# Altium footprint library KEMET.PcbLib: 1 footprints
Each footprint in its own frame and in the unit in brackets; x right, y up, seen from the top. Pads: shape width x height; smd on the part's side, far side on the other; paste and mask are expansions set on the pad; w line width, h text height; cw(c..) or ccw(c..) is an arc to the next point about the centre after c.
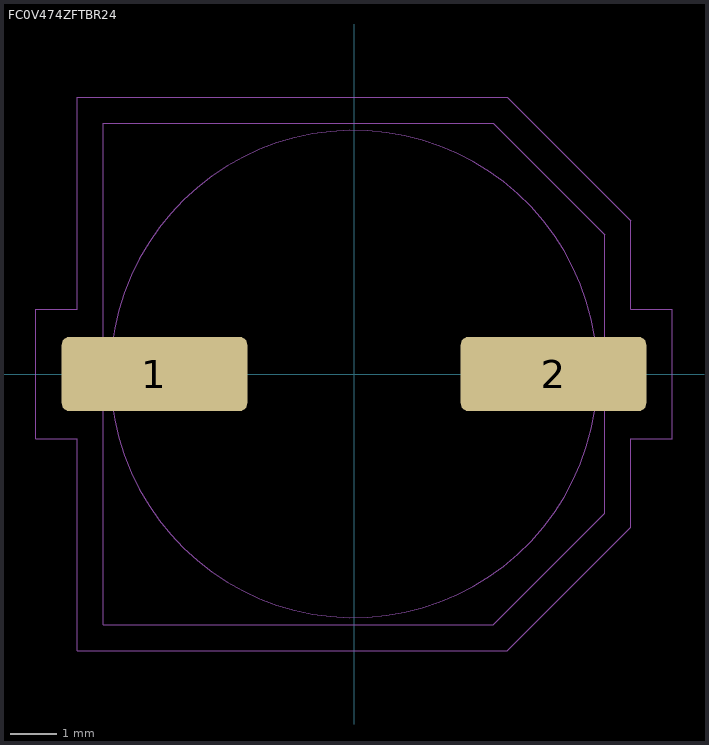
[diagram p0: the footprint, top view; thin cyan lines are the x and y axes]

## FC0V474ZFTBR24 [mm]
pads (2):
  rrect20% 4x1.6 smd paste-2.54 mask+0.076: 1(-4.3,0) 2(4.3,0)
Top Paste:
  rectangle: -6.223,0.127 -2.413,0.762
  rectangle: -6.223,-0.762 -2.413,-0.127
  rectangle: 2.413,0.127 6.223,0.762
  rectangle: 2.413,-0.762 6.223,-0.127
Top Solder:
  rectangle: -1.397,-0.889 -0.762,0.889
  rectangle: 1.143,-0.508 1.397,0.508
  region: 1.778,-0.127 1.778,0.127 0.762,0.127 0.762,-0.127
  lines w0.254: -2.54,-1.524 -2.54,-2.413 1.524,-2.413 2.413,-1.524 ; -2.54,1.524 -2.54,2.413 1.524,2.413 2.413,1.524
Top Designator:
  text ".Designator" at -3.242,-0.317 h0.89
Top Courtyard:
  lines w0.025: -6.858,-1.397 -6.858,1.397 -5.969,1.397 -5.969,5.969 3.302,5.969 5.969,3.302 5.969,1.397 6.858,1.397 6.858,-1.397 5.969,-1.397 5.969,-3.302 3.302,-5.969 -5.969,-5.969 -5.969,-1.397 -6.858,-1.397
Top Component Outline:
  circle w0.025: c0,0 r5.25
  lines w0.025: -6.1,-0.6 -2.5,-0.6 -2.5,0.6 -6.1,0.6 -6.1,-0.6 ; -5.4,-5.4 3,-5.4 5.4,-3 5.4,3 3,5.4 -5.4,5.4 -5.4,-5.4 ; 2.5,-0.6 2.5,0.6 6.1,0.6 6.1,-0.6 2.5,-0.6
3D body: height 8.75, standoff 0.25, extent -5.25,-5.247 5.25,5.247
3D body: height 1.3, standoff 0.03, extent -5.4,-5.4 5.4,5.4
3D body: height 0.25, standoff 0, extent 2.5,-0.6 6.1,0.6
3D body: height 0.25, standoff 0, extent -6.1,-0.6 -2.5,0.6